# Altium schematic symbol library TLE2426ID.SchLib: 2 symbols
Pins are listed as number, name and electrical type; pins without a type are passive.

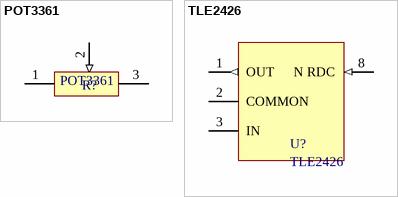
[diagram p0: symbols POT3361 to TLE2426]

## POT3361
designator R?  (value not drawn)
footprint 3361P
pins: 1, 2 (in), 3

## TLE2426
designator U?
Precision Virtual Ground
footprint SOP8 - duplicate
footprint DIP-8
pins: 1 OUT (out), 2 COMMON, 3 IN, 4 NC hidden, 5 NC hidden, 6 NC hidden, 7 NC hidden, 8 N RDC (in)